# Altium schematic symbol library VDD_SYMBOL.SchLib: 1 symbol
Pins are listed as number, name and electrical type; pins without a type are passive.

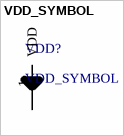
[diagram p0: symbol VDD_SYMBOL]

## VDD_SYMBOL
designator VDD?
VDD power symbol
pins: 1 VDD (power)